# EAGLE library part SALTWATERS_LINK (library ElectricNoodleBox)
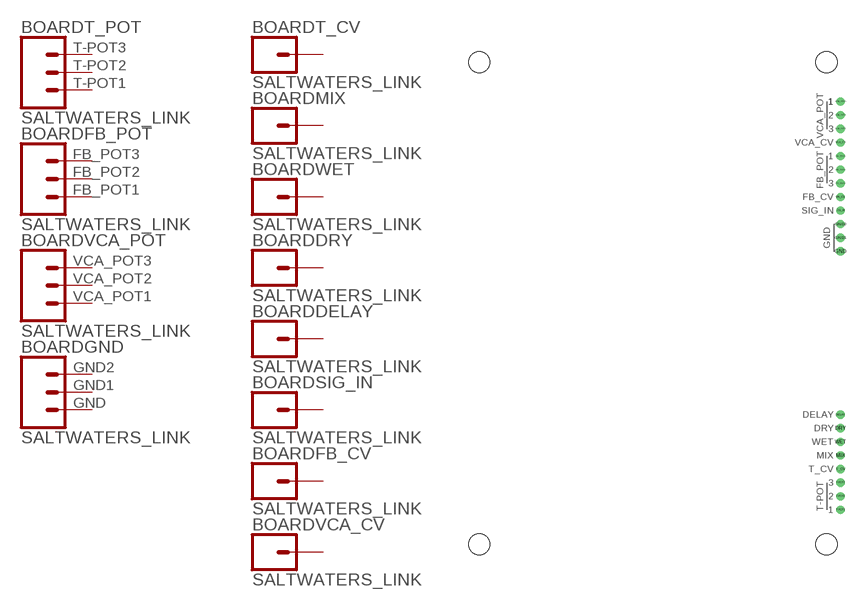
[diagram p38: symbol with the pads of SALTWATERS; footprint SALTWATERS]

Designator prefix BOARD; gates T_POT=CONN_03 FB_POT=CONN_03 VCA_POT=CONN_03 T_CV=CONN_01 MIX=CONN_01 WET=CONN_01 DRY=CONN_01 DELAY=CONN_01 SIG_IN=CONN_01 FB_CV=CONN_01 VCA_CV=CONN_01 GND=CONN_03

## SALTWATERS_LINK  [SALTWATERS]
DELAY  DELAY:1  pas
DRY  DRY:1  pas
FB_CV  FB_CV:1  pas
FB_POT1  FB_POT:1  pas
FB_POT2  FB_POT:2  pas
FB_POT3  FB_POT:3  pas
GND  GND:1  pas
GND1  GND:2  pas
GND2  GND:3  pas
MIX  MIX:1  pas
SIG_IN  SIG_IN:1  pas
T-POT1  T_POT:1  pas
T-POT2  T_POT:2  pas
T-POT3  T_POT:3  pas
T_CV  T_CV:1  pas
VCA_CV  VCA_CV:1  pas
VCA_POT1  VCA_POT:1  pas
VCA_POT2  VCA_POT:2  pas
VCA_POT3  VCA_POT:3  pas
WET  WET:1  pas

## Footprint SALTWATERS (pad centres in mm)
drill 1.016: DELAY 72.39,29.21; DRY 72.39,26.67; FB_CV 72.39,69.85; FB_POT1 72.39,77.47; FB_POT2 72.39,74.93; FB_POT3 72.39,72.39; GND 72.39,59.69; GND1 72.39,62.23; GND2 72.39,64.77; MIX 72.39,21.59; SIG_IN 72.39,67.31; T-POT1 72.39,11.43; T-POT2 72.39,13.97; T-POT3 72.39,16.51; T_CV 72.39,19.05; VCA_CV 72.39,80.01; VCA_POT1 72.39,87.63; VCA_POT2 72.39,85.09; VCA_POT3 72.39,82.55; WET 72.39,24.13
hole 4 at 5,5
hole 4 at 69.75,5
hole 4 at 69.75,95
hole 4 at 5,95